# Altium integrated library mini_project_one_rail.IntLib: 8 symbols
Pins are listed as number, name and electrical type; pins without a type are passive.

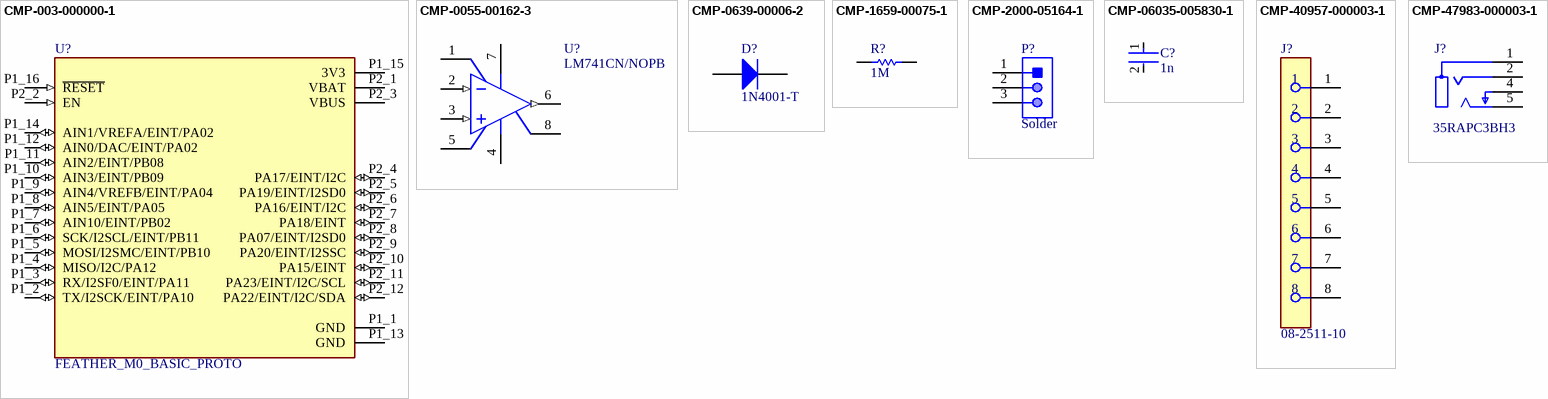
[diagram p0: symbols CMP-003-000000-1 to CMP-47983-000003-1]

## CMP-003-000000-1
designator U?, comment FEATHER_M0_BASIC_PROTO
ATSAMD21G18 Feather M0 Basic Proto series ARM® Cortex®-M0+ MCU 32-Bit Embedded Evaluation Board; MF: Adafruit Industries; Price: None; Source: FEATHER_M0_BASIC_PROTO.SchLib; Check_prices: https://www.snapeda.com/parts/Feather%20M0%20Basic%20Proto/Adafruit+Industries/view-part/?ref=eda; SnapEDA_Link: https://www.snapeda.com/parts/Feather%20M0%20Basic%20Proto/Adafruit+Industries/view-part/?ref=snap; Component Type: Standard; Pin Count: 28; Value: *; Package: None; Availability: Not in stock; MP: Feather M0 Basic Proto; Design Item ID: FEATHER_M0_BASIC_PROTO
footprint MODULE_FEATHER_M0_BASIC_PROTO
pins: P1_1 GND (power), P1_2 TX/I2SCK/EINT/PA10 (io), P1_3 RX/I2SF0/EINT/PA11 (io), P1_4 MISO/I2C/PA12 (io), P1_5 MOSI/I2SMC/EINT/PB10 (io), P1_6 SCK/I2SCL/EINT/PB11 (io), P1_7 AIN10/EINT/PB02 (io), P1_8 AIN5/EINT/PA05 (io), P1_9 AIN4/VREFB/EINT/PA04 (io), P1_10 AIN3/EINT/PB09 (io), P1_11 AIN2/EINT/PB08 (io), P1_12 AIN0/DAC/EINT/PA02 (io), P1_13 GND (power), P1_14 AIN1/VREFA/EINT/PA02 (io), P1_15 3V3 (power), P1_16 ~{RESET} (in), P2_1 VBAT (power), P2_2 EN (in), P2_3 VBUS (power), P2_4 PA17/EINT/I2C (io), P2_5 PA19/EINT/I2SD0 (io), P2_6 PA16/EINT/I2C (io), P2_7 PA18/EINT (io), P2_8 PA07/EINT/I2SD0 (io), P2_9 PA20/EINT/I2SSC (io), P2_10 PA15/EINT (io), P2_11 PA23/EINT/I2C/SCL (io), P2_12 PA22/EINT/I2C/SDA (io)

## CMP-0055-00162-3
designator U?, comment LM741CN/NOPB
Operational Amplifier, 8-pin MDIP, Pb-Free; Manufacturer: Texas Instruments; PackageTopMarking: NSUZXYTTE#*LM*741CN; PowerWise: N; CompType: Amplifiers; ComponentLink1Description: Datasheet URL; ComponentLink1URL: http://www.ti.com/general/docs/lit/getliterature.tsp?genericPartNumber=LM741&fileType=pdf; PackageDescription: MDIP, .365 x .250 x .130in, 8 Lead, .100in Pitch; RoHS: Y; PinCount: 8; Code_JEDEC: MS-001-BA; Package Reference: P0008A
footprint P0008A (DIP, 8-Leads, Body 10.15x6.6mm, Pitch 2.54mm)
pins: 1 OFS NULL, 2 IN- (in), 3 IN+ (in), 4 V- (power), 5 OFS NULL, 6 OUT (out), 7 V+ (power), 8 NC

## CMP-0639-00006-2
designator D?, comment 1N4001-T
1.0 A Rectifier, 15 pF, 50 V, -65 to 150 degC, 2-Pin DO-41 Plastic, RoHS, Tape and Reel; Manufacturer: Diodes Inc; VF (V): 1; CT (pF): 15; Max. IR (uA): 5; VRRM (V): 50; Max. IFSM (A): 30; RoHS: TRUE; Mounting Technology: Through Hole; PartNumber: 1N4001-T; ComponentLink2Description: Datasheet; DatasheetVersion: Rev. 8-2; Operating Temperature Range (degC): -65 to 150; Packing: Tape and Reel; PackageReference: DO-41-P-2; ComponentLink1URL: http://diodes.com/; PackageDescription: 2-Pin Axial Lead, Body 4.635 x 2.36 mm, Lead Spread 25.4 mm; ComponentLink2URL: http://diodes.com/datasheets/ds28002.pdf; Max. Average Rectified Current IO (A): 1; ComponentLink1Description: Manufacturer URL
footprint DIOD-DO-41-P-2_V (2-Leads, Axial Lead, Body 4.635x2.36mm, Pin Spacing 9mm)
footprint DIOD-DO-41-P-2_V2 (2-Leads, Axial Lead, Body 4.635x2.36mm, Pin Spacing 3mm)
pins: 1 A, 2 K

## CMP-1659-00075-1
designator R?, comment 1M
Axial Resistor, 1 KOhm, +/- 1%, 250 mW, -55 to 155 degC, 2-Pin THD, RoHS, Bulk; Voltage Rating: 250 V; Resistance: 10 kohm; Power Rating: 250 mW; ComponentLink2Description: Datasheet; RoHSCompliant: true; PackageReference: MFR-25; Case\Package: Axial; Max Operating Temperature: 155 degC; DatasheetVersion: Apr-13; Tolerance: 1%; ComponentLink1URL: http://www.yageo.com/; Length: 0.248 inch; ComponentLink2URL: http://www.yageo.com/documents/recent/Yageo%20LR_MFR_2013.pdf; Packaging: Bulk; Package Quantity: 200; PackageDescription: 2-Pin Axial Lead, Dia 2.4 mm, Body Length 6.3 mm; Min Operating Temperature: -55 degC; ComponentLink1Description: Manufacturer URL
footprint RESA60-630X240 (Axial Resistor, 2-Leads, Dia 2.4mm, Body Length 6.3mm)
pins: 1, 2

## CMP-2000-05164-1
designator P?, comment Solder
Male Header, Pitch 2 mm, 1 x 3 Position, Height 6 mm, Tail Length 3.4 mm, -25 to 85 degC, RoHS, Bulk; Manufacturer: JST; Style/Orientation: StraightHeader/Plug; Pitch: 2mm; No of Positions: 3; Termination: Crimp; Manufacturer URL: http://www.jst.com/home2.html; Datasheet Version: Oct-06; Type: ShroudedHeader; Datasheet URL: https://datasheet.ciiva.com/11746/0900766b80826550-11746939.pdf
footprint JST-B3B-PH-K-S-3_V (Connector, 3-Leads, Body 7.9x4.5mm, Pitch 2mm)
pins: 1, 2, 3

## CMP-06035-005830-1
designator C?, comment 1n
Cap Ceramic 10uF 25V X7R ±10% Radial 2.5mm +125°C Automotive Ammo Pack; Lead/Base Style: Straight; Lead Diameter: 0.5mm; Case/Package: Radial; Voltage Rating (DC): 25V; Tolerance: 10%; Lead Pitch: 0.098inch; Termination: Radial; Height - Seated (Max): 0.197inch; Resistor Type: Ceramic; Min Operating Temperature: -55°C; Dielectric: X7R; Length: 0.217inch; Voltage Rating: 25V; Width: 0.157inch; Height: 5mm; Packaging: Tape and Reel; Ratings: AEC-Q200; Max Operating Temperature: 125°C; Package Quantity: 1500; Mount: Through Hole; Capacitance: 10uF
footprint FP-RCE3DB-MFG
pins: 1, 2

## CMP-40957-000003-1
designator J?, comment 08-2511-10
CONN IC DIP SOCKET 8POS TIN; Manufacturer: Aries Electronics; Pitch: 2.54mm; Conn Gender: Female; Is Female: yes; Number Of Contacts: 8; Current Rating: 1A; Standoff Height: 0.51mm; Conn Orientation: Vertical; Socket Package: DIP8; Device Class L2: IC and Component Sockets; Lead Free: Yes; Package: 0; Automotive: No; ComponentLink2URL: https://www.arieselec.com/products/data/12004-dip-test-socket.pdf; Contact Material: Tin; Height: 7.75mm; Digikey Description: CONN IC DIP SOCKET 8POS TIN; Temperature Range High: +105°C; RoHS: TRUE; ComponentLink2Description: Datasheet; Temperature: -55°C to +105°C; Temperature Range Low: -55°C; Device Class L1: Connectors; Device Class L3: unset; Manufacturer Part Number: 08-2511-10; Octopart: https://octopart.com/08-2511-10-aries-767661; Number Of Rows: 2; Category: Conn
footprint FP-08-2511-10-MFG
pins: 1, 2, 3, 4, 5, 6, 7, 8

## CMP-47983-000003-1
designator J?, comment 35RAPC3BH3
CONN JACK STEREO 3.5MM R/A; Gender: Female; Number of Positions: 3; Body Color: Black; Number of Ports: 1; Voltage Rating: 500V; Shielding: Unshielded; Body Material: Brass; Orientation: Right Angle; RoHS Compliant: Yes; Termination: Solder; Lead Free: Lead Free; Package Quantity: 1; Series: 35; Housing Material: PBT; Color: Black; Packaging: Bulk; Contact Plating: Silver; Mount: Through Hole; Contact Material: Copper Alloy; Number of Terminals/Pins: 3
footprint FP-35RAPC3BH3-MFG
pins: 1, 2, 4, 5